# EAGLE library part AT90USB162 (library _AT90USB)
AT90USB162 Author: brunql.github.com
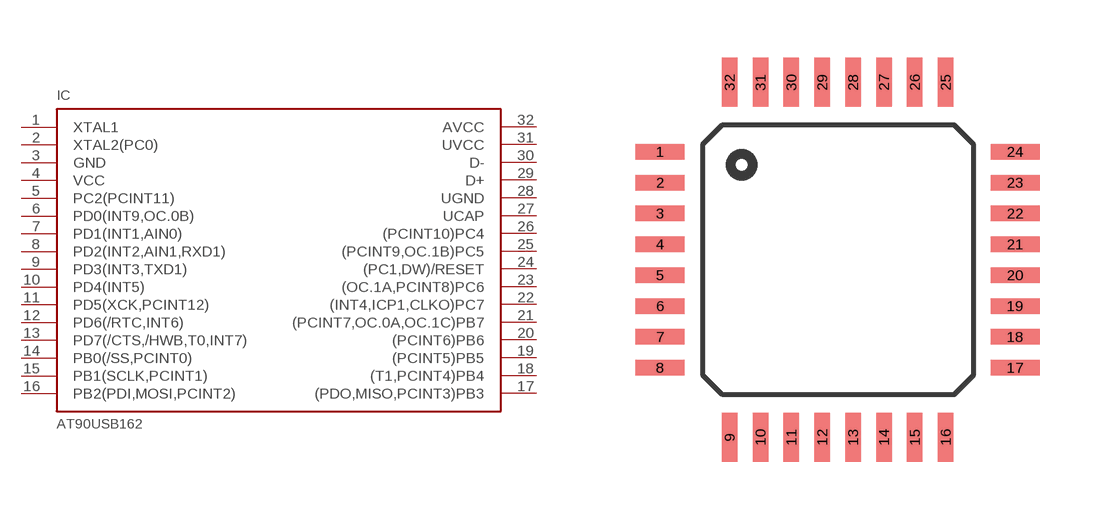
[diagram p0: symbol with the pads of TQFP32; footprint TQFP32]

Designator prefix IC

## AT90USB162  [TQFP32]
1  XTAL1
2  XTAL2(PC0)
3  GND
4  VCC
5  PC2(PCINT11)
6  PD0(INT9,OC.0B)
7  PD1(INT1,AIN0)
8  PD2(INT2,AIN1,RXD1)
9  PD3(INT3,TXD1)
10  PD4(INT5)
11  PD5(XCK,PCINT12)
12  PD6(/RTC,INT6)
13  PD7(/CTS,/HWB,T0,INT7)
14  PB0(/SS,PCINT0)
15  PB1(SCLK,PCINT1)
16  PB2(PDI,MOSI,PCINT2)
17  (PDO,MISO,PCINT3)PB3
18  (T1,PCINT4)PB4
19  (PCINT5)PB5
20  (PCINT6)PB6
21  (PCINT7,OC.0A,OC.1C)PB7
22  (INT4,ICP1,CLKO)PC7
23  (OC.1A,PCINT8)PC6
24  (PC1,DW)/RESET
25  (PCINT9,OC.1B)PC5
26  (PCINT10)PC4
27  UCAP
28  UGND
29  D+
30  D-
31  UVCC
32  AVCC

## Footprint TQFP32 (pad centres in mm)
Thin Quad Flat Pack package type TQ
smd 1.27 x 0.4: 1 -4.61,2.82; 2 -4.61,2.02; 3 -4.61,1.22; 4 -4.61,0.42; 5 -4.61,-0.38; 6 -4.61,-1.18; 7 -4.61,-1.98; 8 -4.61,-2.78; 17 4.59,-2.78; 18 4.59,-1.98; 19 4.59,-1.18; 20 4.59,-0.38; 21 4.59,0.42; 22 4.59,1.22; 23 4.59,2.02; 24 4.59,2.82
smd 0.4 x 1.27: 9 -2.81,-4.58; 10 -2.01,-4.58; 11 -1.21,-4.58; 12 -0.41,-4.58; 13 0.39,-4.58; 14 1.19,-4.58; 15 1.99,-4.58; 16 2.79,-4.58; 25 2.79,4.62; 26 1.99,4.62; 27 1.19,4.62; 28 0.39,4.62; 29 -0.41,4.62; 30 -1.21,4.62; 31 -2.01,4.62; 32 -2.81,4.62